# Altium footprint library Motors.PcbLib: 1 footprints
Each footprint in its own frame and in the unit in brackets; x right, y up, seen from the top. Pads: shape width x height; smd on the part's side, far side on the other; paste and mask are expansions set on the pad; w line width, h text height; cw(c..) or ccw(c..) is an arc to the next point about the centre after c.
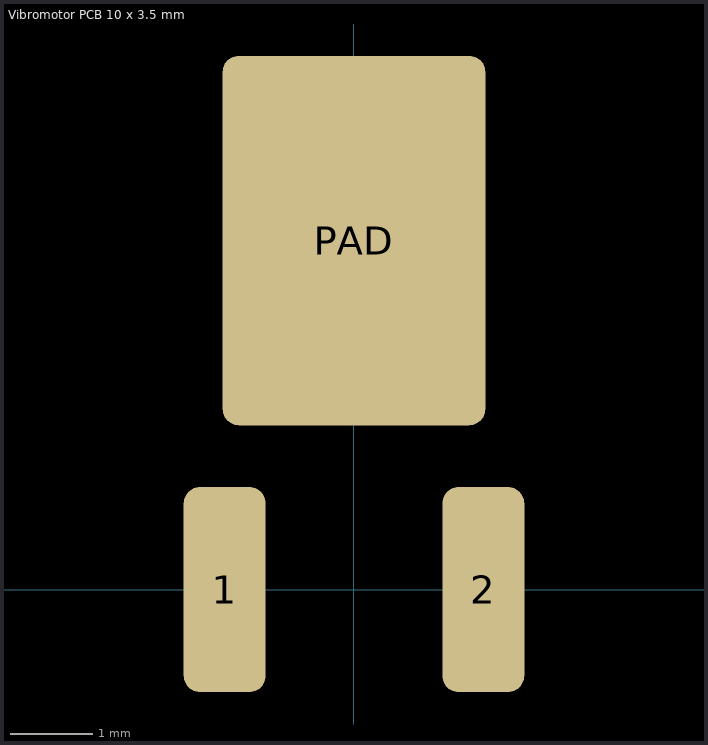
[diagram p0: the footprint, top view; thin cyan lines are the x and y axes]

## Vibromotor PCB 10 x 3.5 mm [mm]
pads (3):
  rrect40% 1x2.5 smd: 1(-1.575,0) 2(1.575,0)
  rrect12% 3.2x4.5 smd: PAD(0,4.25)
3D body "VibroMotor.stp": height 3.4, standoff 0, extent -2.2,-0.75 2.2,10.25